# EAGLE library part MC34063 (library __MyCommonLib1)
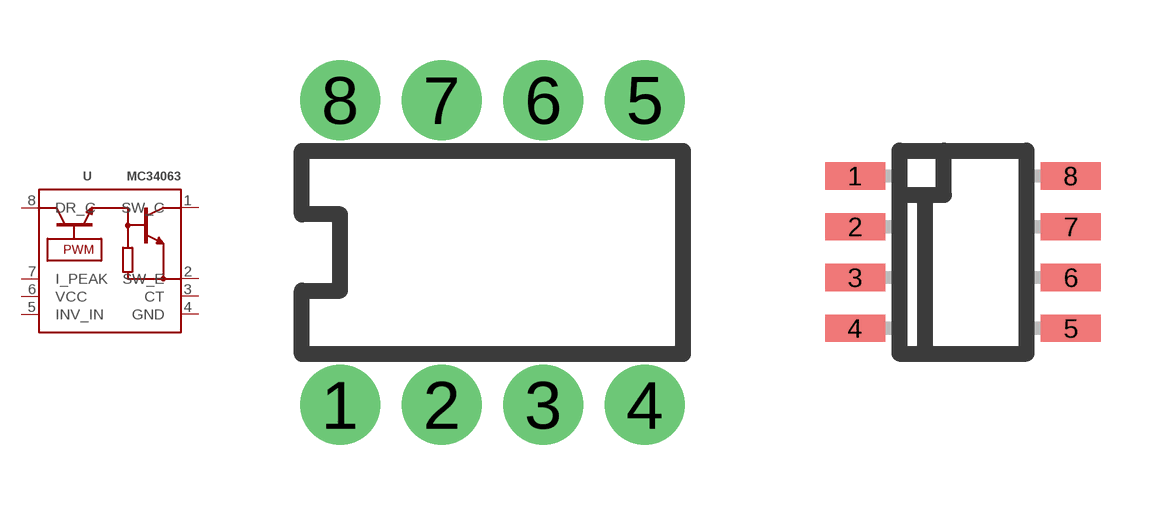
[diagram p11: symbol with the pads of DIP8; footprints DIP8, SOIC8]

Designator prefix -

## MC34063(DIP8)  [DIP8]
1  SW_C
2  SW_E
3  CT
4  GND
5  INV_IN
6  VCC
7  I_PEAK
8  DR_C

## MC34063(SO-8)  [SOIC8]
Pads as for DIP8

## Footprint DIP8 (pad centres in mm)
drill 0.9 pad 2: 1 -3.81,-3.81; 2 -1.27,-3.81; 3 1.27,-3.81; 4 3.81,-3.81; 5 3.81,3.81; 6 1.27,3.81; 7 -1.27,3.81; 8 -3.81,3.81

## Footprint SOIC8 (pad centres in mm)
smd 1.5 x 0.68: 1 -2.699,1.905; 2 -2.699,0.635; 3 -2.699,-0.635; 4 -2.699,-1.905; 5 2.699,-1.905; 6 2.699,-0.635; 7 2.699,0.635; 8 2.699,1.905